# Altium schematic symbol library Volt_Reg.SchLib: 1 symbol
Pins are listed as number, name and electrical type; pins without a type are passive.

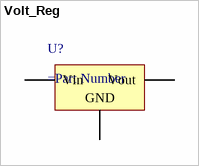
[diagram p0: symbol Volt_Reg]

## Volt_Reg
designator U?
pins: 1 Vin, 2 GND, 3 Vout